# Altium footprint library ISO BLOCK (A,B,C).PcbLib: 1 footprints
Each footprint in its own frame and in the unit in brackets; x right, y up, seen from the top. Pads: shape width x height; smd on the part's side, far side on the other; paste and mask are expansions set on the pad; w line width, h text height; cw(c..) or ccw(c..) is an arc to the next point about the centre after c.
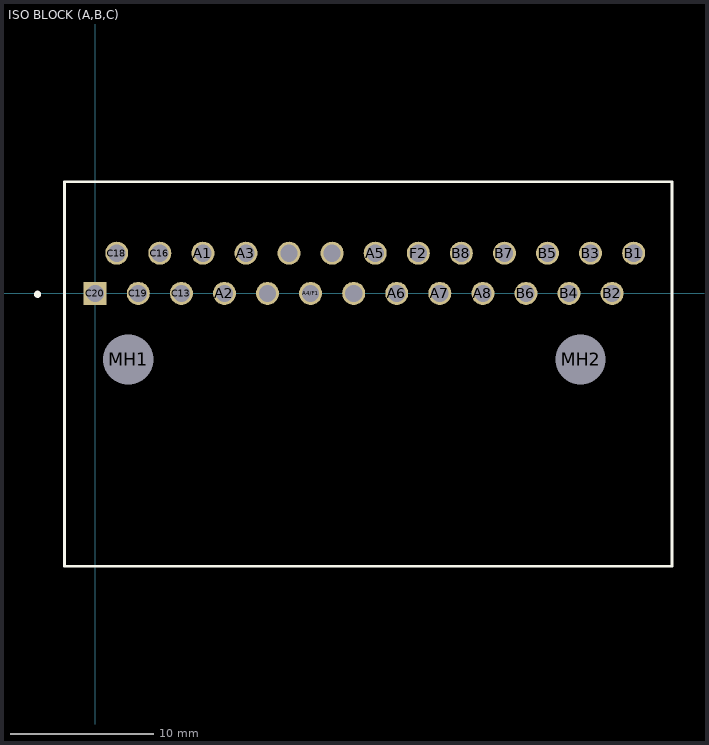
[diagram p0: the footprint, top view; thin cyan lines are the x and y axes]

## ISO BLOCK (A,B,C) [mm]
height 8.76
pads (28):
  round 1.6 hole 1.2: A1(7.5,2.8) A2(9,0) A3(10.5,2.8) A4/F1(15,0) A5(19.5,2.8) A6(21,0) A7(24,0) A8(27,0) B1(37.5,2.8) B2(36,0) B3(34.5,2.8) B4(33,0) B5(31.5,2.8) B6(30,0) B7(28.5,2.8) B8(25.5,2.8) C2/C17(16.5,2.8) C3/C14(13.5,2.8) C5/C14(18,0) C6/C15(12,0) C13(6,0) C16(4.5,2.8) C18(1.5,2.8) C19(3,0) F2(22.5,2.8)
  rect 1.6x1.6 hole 1.2: C20(0,0)
  round 3 hole 3.5 unplated: MH1(2.305,-4.6) MH2(33.805,-4.6)
Top Overlay:
  circle w0.25: c-4.012,-0.066 r0.125
  lines w0.2: -2.134,-19.004 40.183,-19.004 40.183,7.772 -2.134,7.772 -2.134,-19.004
Mechanical 15:
  lines w0.05: 1,-3.95 2,-3.95 ; 1.5,-4.45 1.5,-3.45
3D body "PR4.060.0161-20210719.stp": height 43.6, standoff -2.9, extent -2.077,-18.951 40.175,7.749